# EAGLE library part PINHD-1X8 (library Bits_library_eagle 9x)
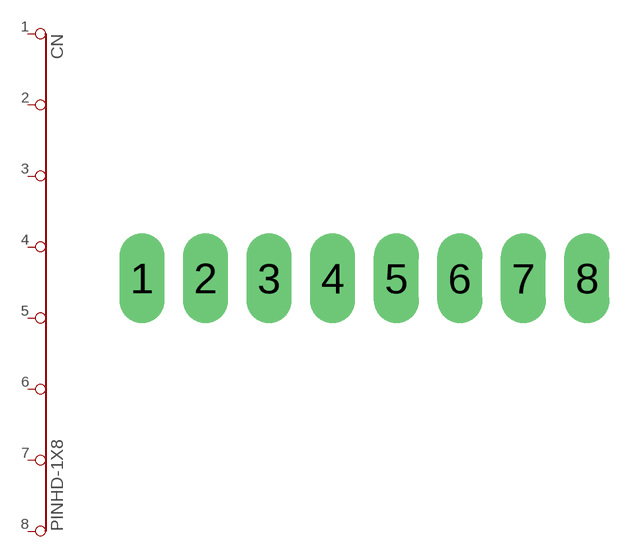
[diagram p80: symbol with the pads of 1X8D; footprint 1X8D]

Designator prefix CN

## PINHD-1X8D  [1X8D]
1  1  pas
2  2  pas
3  3  pas
4  4  pas
5  5  pas
6  6  pas
7  7  pas
8  8  pas

## Footprint 1X8D (pad centres in mm)
PIN HEADER
drill 1 pad 1.8 long: 1 -8.89,0; 2 -6.35,0; 3 -3.81,0; 4 -1.27,0; 5 1.27,0; 6 3.81,0; 7 6.35,0; 8 8.89,0